# EAGLE library part MOC3021 (library custom_lib)
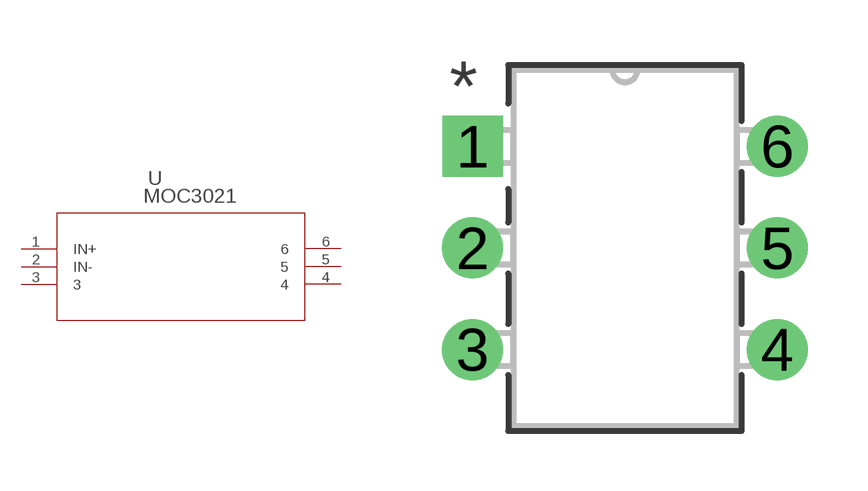
[diagram p1: symbol with the pads of DIP6_300; footprint DIP6_300]

Designator prefix U

## MOC3021 (MANUFACTURER_PART_NUMBER: MOC3021; VENDOR: Linear Technology)  [DIP6_300]
1  IN+  pas
2  IN-  pas
3  3  pas
4  4  pas
5  5  pas
6  6  pas

## Footprint DIP6_300 (pad centres in mm)
drill 0.813 pad 1.524 square: 1 -7.62,5.08
drill 0.813 pad 1.524: 2 -7.62,2.54; 3 -7.62,0; 4 0,0; 5 0,2.54; 6 0,5.08